# EAGLE library part LM2595-5,0 (library stabilizatory)
VOLTAGE REGULATOR
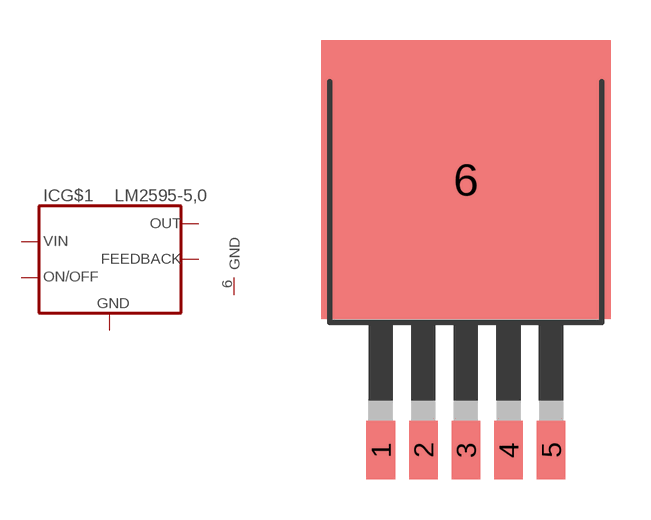
[diagram p14: symbol with the pads of TO263; footprint TO263]

Designator prefix IC; gates G$1=LM2595 G$2=GND

## LM2595-5,0  [TO263]
1  G$1:OUT  pas
2  G$1:VIN  in
3  G$1:GND  in
4  G$1:FEEDBACK  pas
5  G$1:ON/OFF  in
6  G$2:GND  pwr

## Footprint TO263 (pad centres in mm)
SMALL OUTLINE TRANSISTOR TS-005
smd 1.067 x 2.184: 1 -3.175,-6.6; 2 -1.587,-6.6; 3 0,-6.6; 4 1.587,-6.6; 5 3.175,-6.6
smd 10.795 x 10.414: 6 0,3.5